# Altium integrated library Analog Devices Data Converters Digital-to-Analog Converters.IntLib: 2231 symbols (part 180 of 181)
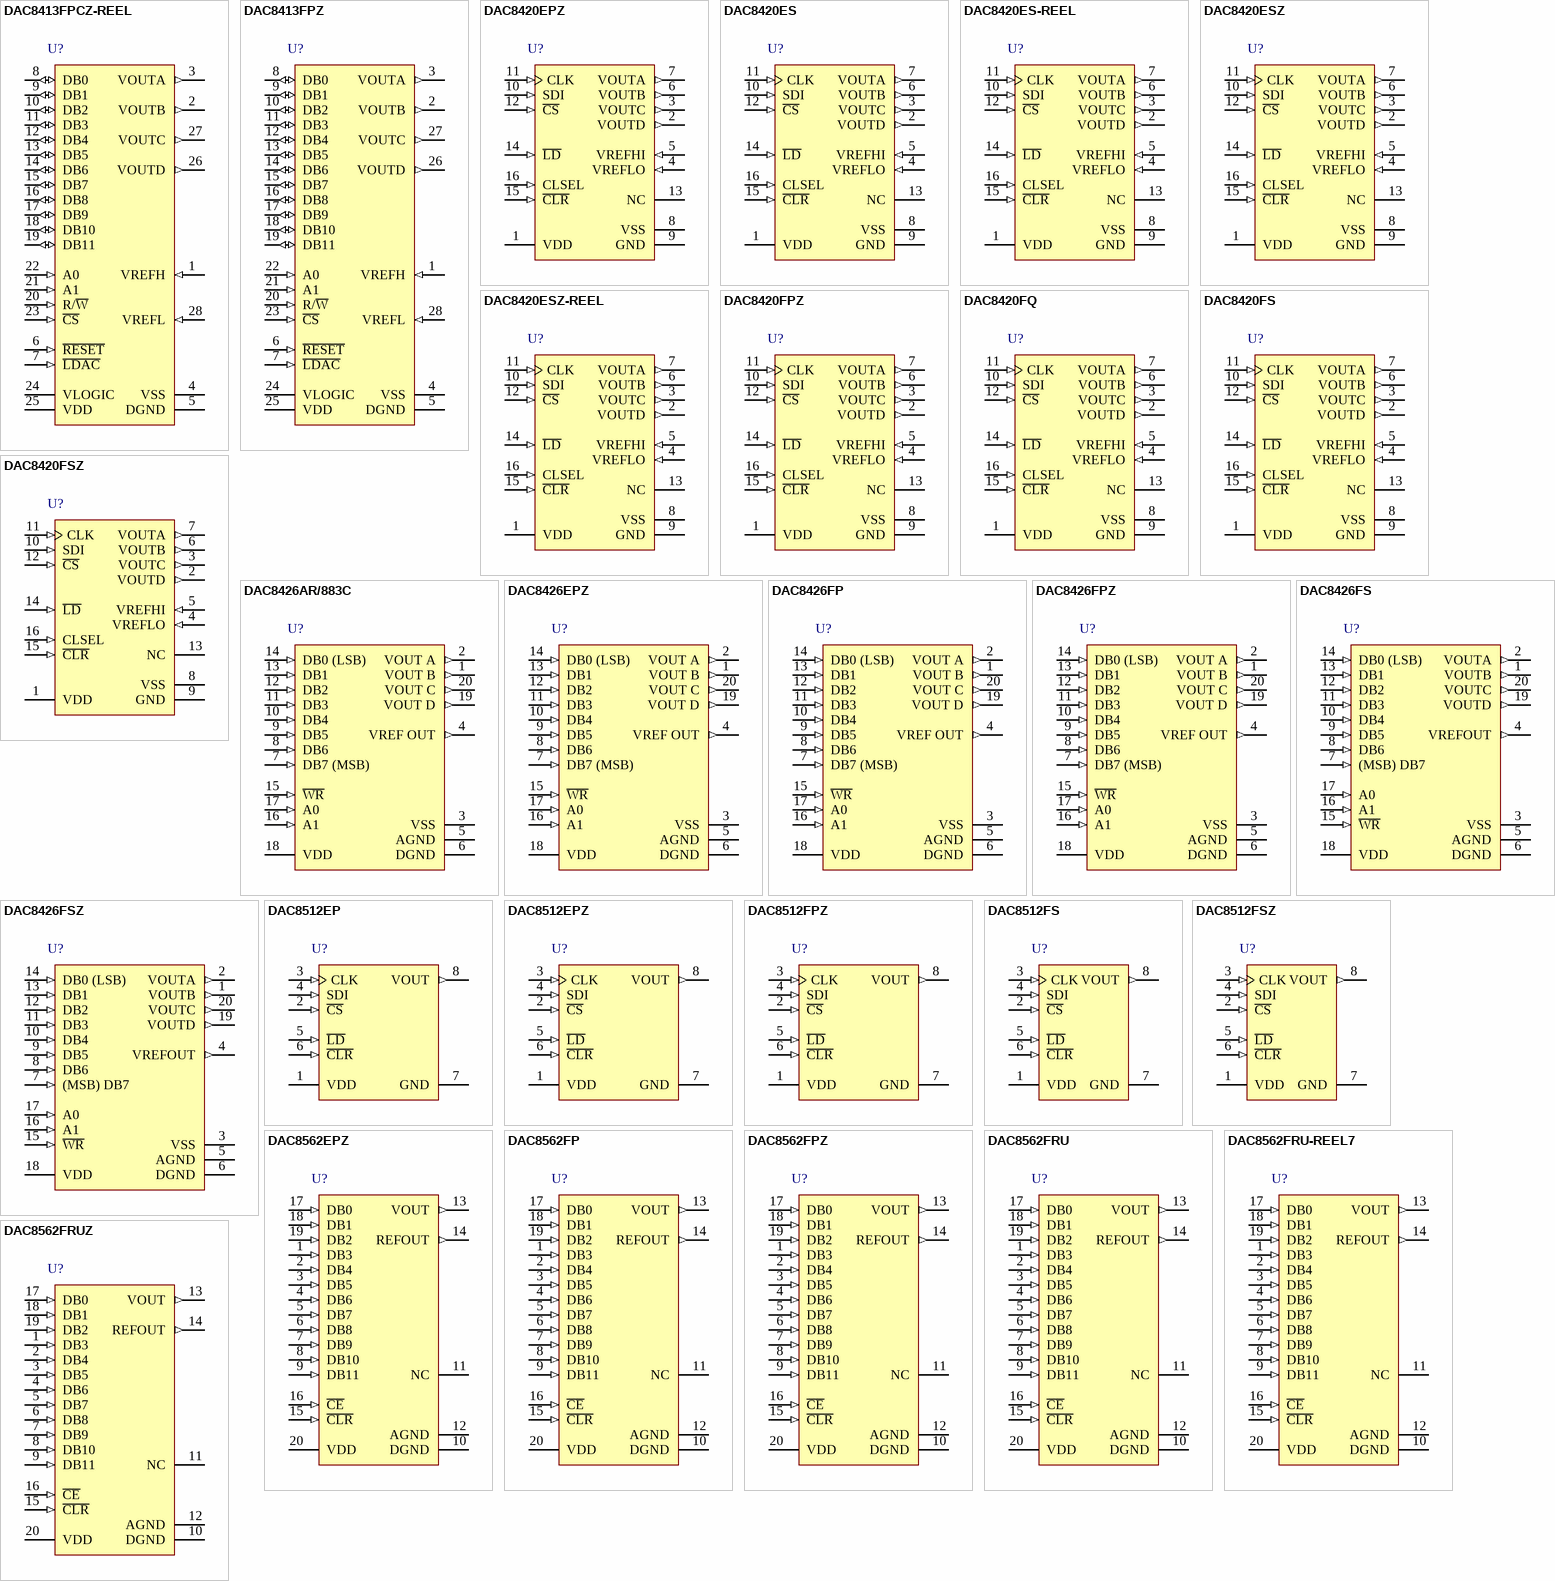
[diagram p293: symbols DAC8413FPCZ-REEL to DAC8562FRUZ]

## DAC8512FS
designator U?
Single 12-Bit Digital-to-Analog Converter with Serial Interface, -40 to +85 degC, R-8, Tube; Generic Part Number: DAC8512; Manufacturer: Analog Devices; PartNumber: DAC8512FS; # DAC Outputs: 1; Max V+: 5.25V; Op Pwr Diss: 2.5mW; Resolution (Bits): 12; Settling Time: 16µs; Single Supply: Yes; DatasheetVersion: Rev.A; PackageVersion: 060506-A; PackageReference: R-8; PackageDescription: 8-Lead Standard Small Outline Package [SOIC_N] Narrow Body; Supplier 1: Digi-Key; Supplier Part Number 1: DAC8512FS-ND; Supplier 2: Newark; Supplier Part Number 2: 19M8960; Supplier 3: Mouser; Supplier Part Number 3: 584-DAC8512FS; Packing: Tube; RoHS: N; Mounting Technology: Surface Mount; Code_JEDEC: MS-012-AA; Code_IPC: SOIC127P600-8; ComponentLink1Description: Manufacturer URL; ComponentLink1URL: http://www.analog.com/en/index.html; ComponentLink2Description: Datasheet; ComponentLink2URL: http://www.analog.com/static/imported-files/data_sheets/DAC8512.pdf; ComponentLink3Description: Package Specification; ComponentLink3URL: http://www.analog.com/static/imported-files/packages/PKG_PDF/SOIC_Narrow%20(R)/R_8.pdf; ComponentLink4Description: Product URL; ComponentLink4URL: http://www.analog.com/en/digital-to-analog-converters/da-converters/dac8512/products/product.html
footprint R-8_N (SOIC, 8-Leads, Body 4.9x3.9mm, Pitch 1.27mm, IPC Medium Density)
footprint R-8_L (SOIC, 8-Leads, Body 4.9x3.9mm, Pitch 1.27mm, IPC High Density)
footprint R-8_M (SOIC, 8-Leads, Body 4.9x3.9mm, Pitch 1.27mm, IPC Low Density)
pins: 1 VDD (power) "Positive Supply. Nominal value +5 V, +/- 5%.", 2 ~{CS} (in) "Chip Select. Active low input.", 3 CLK (in) "Clock input for the internal serial input shift register.", 4 SDI (in) "Serial Data Input. Data on this pin is clocked into the internal serial register on positive clock edges of the CLK pin. The Most Significant Bit (MSB) is loaded first.", 5 ~{LD} (in) "Active low input which writes the serial register data into the DAC register. Asynchronous input.", 6 ~{CLR} (in) "Active low digital input that clears the DAC register to zero, setting the DAC to minimum scale. Asynchronous input.", 7 GND (power) "Analog ground for the DAC. This also serves as the digital logic ground reference voltage.", 8 VOUT (out) "Voltage output from the DAC. Fixed output voltage range of 0 V to 4.095 V with 1 mV/LSB. An internal temperature stabilized reference maintains a fixed full-scale voltage independent of time, temperature and power supply (See Datasheet)"

## DAC8512FSZ
designator U?
Single 12-Bit Digital-to-Analog Converter with Serial Interface, -40 to +85 degC, R-8, Pb-Free, Tube; Generic Part Number: DAC8512; Manufacturer: Analog Devices; PartNumber: DAC8512FSZ; # DAC Outputs: 1; Max V+: 5.25V; Op Pwr Diss: 2.5mW; Resolution (Bits): 12; Settling Time: 16µs; Single Supply: Yes; DatasheetVersion: Rev.A; PackageVersion: 060506-A; PackageReference: R-8; PackageDescription: 8-Lead Standard Small Outline Package [SOIC_N] Narrow Body; Supplier 1: Digi-Key; Supplier Part Number 1: DAC8512FSZ-ND; Supplier 2: Farnell; Supplier Part Number 2: 1389174; Supplier 3: Newark; Supplier Part Number 3: 82H3242; Supplier 4: Mouser; Supplier Part Number 4: 584-DAC8512FSZ; Packing: Tube; RoHS: Y; Mounting Technology: Surface Mount; Code_JEDEC: MS-012-AA; Code_IPC: SOIC127P600-8; ComponentLink1Description: Manufacturer URL; ComponentLink1URL: http://www.analog.com/en/index.html; ComponentLink2Description: Datasheet; ComponentLink2URL: http://www.analog.com/static/imported-files/data_sheets/DAC8512.pdf; ComponentLink3Description: Package Specification; ComponentLink3URL: http://www.analog.com/static/imported-files/packages/PKG_PDF/SOIC_Narrow%20(R)/R_8.pdf; ComponentLink4Description: Product URL; ComponentLink4URL: http://www.analog.com/en/digital-to-analog-converters/da-converters/dac8512/products/product.html
footprint R-8_N (SOIC, 8-Leads, Body 4.9x3.9mm, Pitch 1.27mm, IPC Medium Density)
footprint R-8_L (SOIC, 8-Leads, Body 4.9x3.9mm, Pitch 1.27mm, IPC High Density)
footprint R-8_M (SOIC, 8-Leads, Body 4.9x3.9mm, Pitch 1.27mm, IPC Low Density)
pins: 1 VDD (power) "Positive Supply. Nominal value +5 V, +/- 5%.", 2 ~{CS} (in) "Chip Select. Active low input.", 3 CLK (in) "Clock input for the internal serial input shift register.", 4 SDI (in) "Serial Data Input. Data on this pin is clocked into the internal serial register on positive clock edges of the CLK pin. The Most Significant Bit (MSB) is loaded first.", 5 ~{LD} (in) "Active low input which writes the serial register data into the DAC register. Asynchronous input.", 6 ~{CLR} (in) "Active low digital input that clears the DAC register to zero, setting the DAC to minimum scale. Asynchronous input.", 7 GND (power) "Analog ground for the DAC. This also serves as the digital logic ground reference voltage.", 8 VOUT (out) "Voltage output from the DAC. Fixed output voltage range of 0 V to 4.095 V with 1 mV/LSB. An internal temperature stabilized reference maintains a fixed full-scale voltage independent of time, temperature and power supply (See Datasheet)"

## DAC8562EPZ
designator U?
Single 12-Bit Digital-to-Analog Converter with Parallel Interface, 5 V, -40 to +85 degC, N-20, Pb-Free, Tube; Generic Part Number: DAC8562; Manufacturer: Analog Devices; PartNumber: DAC8562EPZ; # DAC Outputs: 1; Max V+: 5.25V; Op Pwr Diss: 30mW; Resolution (Bits): 12; Settling Time: 16µs; Single Supply: Yes; DatasheetVersion: Rev.A; PackageVersion: 070706-A; PackageReference: N-20; PackageDescription: 20-Lead Plastic Dual In-Line Package [PDIP] Narrow Body; Supplier 1: Mouser; Supplier Part Number 1: N/A; Packing: Tube; RoHS: Y; Mounting Technology: Through Hole; Code_JEDEC: MS-001; ComponentLink1Description: Manufacturer URL; ComponentLink1URL: http://www.analog.com/en/index.html; ComponentLink2Description: Datasheet; ComponentLink2URL: http://www.analog.com/static/imported-files/data_sheets/DAC8562.pdf; ComponentLink3Description: Package Specification; ComponentLink3URL: http://www.analog.com/static/imported-files/packages/50601349676519N_20.pdf; ComponentLink4Description: Product URL; ComponentLink4URL: http://www.analog.com/en/digital-to-analog-converters/da-converters/dac8562/products/product.html
footprint N-20 (DIP, 20-Leads, Row Spacing 7.62mm, Pitch 2.54mm, Body 25.9x6.6mm)
pins: 1 DB3 (in) "Twelve Binary Data Bit inputs.", 2 DB4 (in) "Twelve Binary Data Bit inputs.", 3 DB5 (in) "Twelve Binary Data Bit inputs.", 4 DB6 (in) "Twelve Binary Data Bit inputs.", 5 DB7 (in) "Twelve Binary Data Bit inputs.", 6 DB8 (in) "Twelve Binary Data Bit inputs.", 7 DB9 (in) "Twelve Binary Data Bit inputs.", 8 DB10 (in) "Twelve Binary Data Bit inputs.", 9 DB11 (in) "Twelve Binary Data Bit inputs.DB11 is the MSB.", 10 DGND (power) "Digital ground for input logic.", 11 NC "No Connection. Leave pin floating.", 12 AGND (power) "Analog Ground. Ground reference for the internal bandgap reference voltage, the DAC, and the output buffer.", 13 VOUT (out) "Voltage output from the DAC. Fixed output voltage range of 0 V to 4.095 V with 1 mV/LSB. An internal temperature stabilized reference maintains a fixed full-scale voltage independent of time, temperature and power supply (See Datasheet)", 14 REFOUT (out) "Nominal 2.5 V reference output voltage. This node must be buffered if required to drive external loads.", 15 ~{CLR} (in) "Active low digital input that clears the DAC register to zero, setting the DAC to minimum scale.", 16 ~{CE} (in) "Chip Enable. Active low input.", 17 DB0 (in) "Twelve Binary Data Bit inputs.DB0 is the LSB.", 18 DB1 (in) "Twelve Binary Data Bit inputs.", 19 DB2 (in) "Twelve Binary Data Bit inputs.", 20 VDD (power) "Positive supply. Nominal value +5 volts, +/-5%."

## DAC8562FP
designator U?
Single 12-Bit Digital-to-Analog Converter with Parallel Interface, 5 V, -40 to +85 degC, N-20, Tube; Generic Part Number: DAC8562; Manufacturer: Analog Devices; PartNumber: DAC8562FP; # DAC Outputs: 1; Max V+: 5.25V; Op Pwr Diss: 30mW; Resolution (Bits): 12; Settling Time: 16µs; Single Supply: Yes; DatasheetVersion: Rev.A; PackageVersion: 070706-A; PackageReference: N-20; PackageDescription: 20-Lead Plastic Dual In-Line Package [PDIP] Narrow Body; Supplier 1: Digi-Key; Supplier Part Number 1: DAC8562FP-ND; Supplier 2: Newark; Supplier Part Number 2: 05F8047; Supplier 3: Mouser; Supplier Part Number 3: 584-DAC8562FP; Packing: Tube; RoHS: N; Mounting Technology: Through Hole; Code_JEDEC: MS-001; ComponentLink1Description: Manufacturer URL; ComponentLink1URL: http://www.analog.com/en/index.html; ComponentLink2Description: Datasheet; ComponentLink2URL: http://www.analog.com/static/imported-files/data_sheets/DAC8562.pdf; ComponentLink3Description: Package Specification; ComponentLink3URL: http://www.analog.com/static/imported-files/packages/50601349676519N_20.pdf; ComponentLink4Description: Product URL; ComponentLink4URL: http://www.analog.com/en/digital-to-analog-converters/da-converters/dac8562/products/product.html
footprint N-20 (DIP, 20-Leads, Row Spacing 7.62mm, Pitch 2.54mm, Body 25.9x6.6mm)
pins: 1 DB3 (in) "Twelve Binary Data Bit inputs.", 2 DB4 (in) "Twelve Binary Data Bit inputs.", 3 DB5 (in) "Twelve Binary Data Bit inputs.", 4 DB6 (in) "Twelve Binary Data Bit inputs.", 5 DB7 (in) "Twelve Binary Data Bit inputs.", 6 DB8 (in) "Twelve Binary Data Bit inputs.", 7 DB9 (in) "Twelve Binary Data Bit inputs.", 8 DB10 (in) "Twelve Binary Data Bit inputs.", 9 DB11 (in) "Twelve Binary Data Bit inputs.DB11 is the MSB.", 10 DGND (power) "Digital ground for input logic.", 11 NC "No Connection. Leave pin floating.", 12 AGND (power) "Analog Ground. Ground reference for the internal bandgap reference voltage, the DAC, and the output buffer.", 13 VOUT (out) "Voltage output from the DAC. Fixed output voltage range of 0 V to 4.095 V with 1 mV/LSB. An internal temperature stabilized reference maintains a fixed full-scale voltage independent of time, temperature and power supply (See Datasheet)", 14 REFOUT (out) "Nominal 2.5 V reference output voltage. This node must be buffered if required to drive external loads.", 15 ~{CLR} (in) "Active low digital input that clears the DAC register to zero, setting the DAC to minimum scale.", 16 ~{CE} (in) "Chip Enable. Active low input.", 17 DB0 (in) "Twelve Binary Data Bit inputs.DB0 is the LSB.", 18 DB1 (in) "Twelve Binary Data Bit inputs.", 19 DB2 (in) "Twelve Binary Data Bit inputs.", 20 VDD (power) "Positive supply. Nominal value +5 volts, +/-5%."

## DAC8562FPZ
designator U?
Single 12-Bit Digital-to-Analog Converter with Parallel Interface, 5 V, -40 to +85 degC, N-20, Pb-Free, Tube; Generic Part Number: DAC8562; Manufacturer: Analog Devices; PartNumber: DAC8562FPZ; # DAC Outputs: 1; Max V+: 5.25V; Op Pwr Diss: 30mW; Resolution (Bits): 12; Settling Time: 16µs; Single Supply: Yes; DatasheetVersion: Rev.A; PackageVersion: 070706-A; PackageReference: N-20; PackageDescription: 20-Lead Plastic Dual In-Line Package [PDIP] Narrow Body; Supplier 1: Digi-Key; Supplier Part Number 1: DAC8562FPZ-ND; Supplier 2: Mouser; Supplier Part Number 2: 584-DAC8562FPZ; Packing: Tube; RoHS: Y; Mounting Technology: Through Hole; Code_JEDEC: MS-001; ComponentLink1Description: Manufacturer URL; ComponentLink1URL: http://www.analog.com/en/index.html; ComponentLink2Description: Datasheet; ComponentLink2URL: http://www.analog.com/static/imported-files/data_sheets/DAC8562.pdf; ComponentLink3Description: Package Specification; ComponentLink3URL: http://www.analog.com/static/imported-files/packages/50601349676519N_20.pdf; ComponentLink4Description: Product URL; ComponentLink4URL: http://www.analog.com/en/digital-to-analog-converters/da-converters/dac8562/products/product.html
footprint N-20 (DIP, 20-Leads, Row Spacing 7.62mm, Pitch 2.54mm, Body 25.9x6.6mm)
pins: 1 DB3 (in) "Twelve Binary Data Bit inputs.", 2 DB4 (in) "Twelve Binary Data Bit inputs.", 3 DB5 (in) "Twelve Binary Data Bit inputs.", 4 DB6 (in) "Twelve Binary Data Bit inputs.", 5 DB7 (in) "Twelve Binary Data Bit inputs.", 6 DB8 (in) "Twelve Binary Data Bit inputs.", 7 DB9 (in) "Twelve Binary Data Bit inputs.", 8 DB10 (in) "Twelve Binary Data Bit inputs.", 9 DB11 (in) "Twelve Binary Data Bit inputs.DB11 is the MSB.", 10 DGND (power) "Digital ground for input logic.", 11 NC "No Connection. Leave pin floating.", 12 AGND (power) "Analog Ground. Ground reference for the internal bandgap reference voltage, the DAC, and the output buffer.", 13 VOUT (out) "Voltage output from the DAC. Fixed output voltage range of 0 V to 4.095 V with 1 mV/LSB. An internal temperature stabilized reference maintains a fixed full-scale voltage independent of time, temperature and power supply (See Datasheet)", 14 REFOUT (out) "Nominal 2.5 V reference output voltage. This node must be buffered if required to drive external loads.", 15 ~{CLR} (in) "Active low digital input that clears the DAC register to zero, setting the DAC to minimum scale.", 16 ~{CE} (in) "Chip Enable. Active low input.", 17 DB0 (in) "Twelve Binary Data Bit inputs.DB0 is the LSB.", 18 DB1 (in) "Twelve Binary Data Bit inputs.", 19 DB2 (in) "Twelve Binary Data Bit inputs.", 20 VDD (power) "Positive supply. Nominal value +5 volts, +/-5%."

## DAC8562FRU
designator U?
Single 12-Bit Digital-to-Analog Converter with Parallel Interface, 5 V, -40 to +85 degC, RU-20, Tube; Generic Part Number: DAC8562; Manufacturer: Analog Devices; PartNumber: DAC8562FRU; # DAC Outputs: 1; Max V+: 5.25V; Op Pwr Diss: 30mW; Resolution (Bits): 12; Settling Time: 16µs; Single Supply: Yes; DatasheetVersion: Rev.A; PackageVersion: 2000; PackageReference: RU-20; PackageDescription: 20-Lead Thin Shrink Small Outline Package [TSSOP]; Supplier 1: Digi-Key; Supplier Part Number 1: DAC8562FRU-ND; Supplier 2: Mouser; Supplier Part Number 2: 584-DAC8562FRU; Packing: Tube; RoHS: N; Mounting Technology: Surface Mount; Code_JEDEC: MO-153AC; ComponentLink1Description: Manufacturer URL; ComponentLink1URL: http://www.analog.com/en/index.html; ComponentLink2Description: Datasheet; ComponentLink2URL: http://www.analog.com/static/imported-files/data_sheets/DAC8562.pdf; ComponentLink3Description: Package Specification; ComponentLink3URL: http://www.analog.com/static/imported-files/packages/364515793657813558433715854054607941441RU20.pdf; ComponentLink4Description: Product URL; ComponentLink4URL: http://www.analog.com/en/digital-to-analog-converters/da-converters/dac8562/products/product.html
footprint RU-20_N (TSOP, 20-Leads, Body 6.5x4.4mm, Pitch 0.65mm, IPC Medium Density)
footprint RU-20_L (TSOP, 20-Leads, Body 6.5x4.4mm, Pitch 0.65mm, IPC High Density)
footprint RU-20_M (TSOP, 20-Leads, Body 6.5x4.4mm, Pitch 0.65mm, IPC Low Density)
pins: 1 DB3 (in) "Twelve Binary Data Bit inputs.", 2 DB4 (in) "Twelve Binary Data Bit inputs.", 3 DB5 (in) "Twelve Binary Data Bit inputs.", 4 DB6 (in) "Twelve Binary Data Bit inputs.", 5 DB7 (in) "Twelve Binary Data Bit inputs.", 6 DB8 (in) "Twelve Binary Data Bit inputs.", 7 DB9 (in) "Twelve Binary Data Bit inputs.", 8 DB10 (in) "Twelve Binary Data Bit inputs.", 9 DB11 (in) "Twelve Binary Data Bit inputs.DB11 is the MSB.", 10 DGND (power) "Digital ground for input logic.", 11 NC "No Connection. Leave pin floating.", 12 AGND (power) "Analog Ground. Ground reference for the internal bandgap reference voltage, the DAC, and the output buffer.", 13 VOUT (out) "Voltage output from the DAC. Fixed output voltage range of 0 V to 4.095 V with 1 mV/LSB. An internal temperature stabilized reference maintains a fixed full-scale voltage independent of time, temperature and power supply (See Datasheet)", 14 REFOUT (out) "Nominal 2.5 V reference output voltage. This node must be buffered if required to drive external loads.", 15 ~{CLR} (in) "Active low digital input that clears the DAC register to zero, setting the DAC to minimum scale.", 16 ~{CE} (in) "Chip Enable. Active low input.", 17 DB0 (in) "Twelve Binary Data Bit inputs.DB0 is the LSB.", 18 DB1 (in) "Twelve Binary Data Bit inputs.", 19 DB2 (in) "Twelve Binary Data Bit inputs.", 20 VDD (power) "Positive supply. Nominal value +5 volts, +/-5%."

## DAC8562FRU-REEL7
designator U?
Single 12-Bit Digital-to-Analog Converter with Parallel Interface, 5 V, -40 to +85 degC, RU-20, Reel; Generic Part Number: DAC8562; Manufacturer: Analog Devices; PartNumber: DAC8562FRU-REEL7; # DAC Outputs: 1; Max V+: 5.25V; Op Pwr Diss: 30mW; Resolution (Bits): 12; Settling Time: 16µs; Single Supply: Yes; DatasheetVersion: Rev.A; PackageVersion: 2000; PackageReference: RU-20; PackageDescription: 20-Lead Thin Shrink Small Outline Package [TSSOP]; Supplier 1: Digi-Key; Supplier Part Number 1: DAC8562FRU-REEL7-ND; Supplier 2: Mouser; Supplier Part Number 2: 584-DAC8562FRU-R7; Packing: Reel; RoHS: N; Mounting Technology: Surface Mount; Code_JEDEC: MO-153AC; ComponentLink1Description: Manufacturer URL; ComponentLink1URL: http://www.analog.com/en/index.html; ComponentLink2Description: Datasheet; ComponentLink2URL: http://www.analog.com/static/imported-files/data_sheets/DAC8562.pdf; ComponentLink3Description: Package Specification; ComponentLink3URL: http://www.analog.com/static/imported-files/packages/364515793657813558433715854054607941441RU20.pdf; ComponentLink4Description: Product URL; ComponentLink4URL: http://www.analog.com/en/digital-to-analog-converters/da-converters/dac8562/products/product.html
footprint RU-20_N (TSOP, 20-Leads, Body 6.5x4.4mm, Pitch 0.65mm, IPC Medium Density)
footprint RU-20_L (TSOP, 20-Leads, Body 6.5x4.4mm, Pitch 0.65mm, IPC High Density)
footprint RU-20_M (TSOP, 20-Leads, Body 6.5x4.4mm, Pitch 0.65mm, IPC Low Density)
pins: 1 DB3 (in) "Twelve Binary Data Bit inputs.", 2 DB4 (in) "Twelve Binary Data Bit inputs.", 3 DB5 (in) "Twelve Binary Data Bit inputs.", 4 DB6 (in) "Twelve Binary Data Bit inputs.", 5 DB7 (in) "Twelve Binary Data Bit inputs.", 6 DB8 (in) "Twelve Binary Data Bit inputs.", 7 DB9 (in) "Twelve Binary Data Bit inputs.", 8 DB10 (in) "Twelve Binary Data Bit inputs.", 9 DB11 (in) "Twelve Binary Data Bit inputs.DB11 is the MSB.", 10 DGND (power) "Digital ground for input logic.", 11 NC "No Connection. Leave pin floating.", 12 AGND (power) "Analog Ground. Ground reference for the internal bandgap reference voltage, the DAC, and the output buffer.", 13 VOUT (out) "Voltage output from the DAC. Fixed output voltage range of 0 V to 4.095 V with 1 mV/LSB. An internal temperature stabilized reference maintains a fixed full-scale voltage independent of time, temperature and power supply (See Datasheet)", 14 REFOUT (out) "Nominal 2.5 V reference output voltage. This node must be buffered if required to drive external loads.", 15 ~{CLR} (in) "Active low digital input that clears the DAC register to zero, setting the DAC to minimum scale.", 16 ~{CE} (in) "Chip Enable. Active low input.", 17 DB0 (in) "Twelve Binary Data Bit inputs.DB0 is the LSB.", 18 DB1 (in) "Twelve Binary Data Bit inputs.", 19 DB2 (in) "Twelve Binary Data Bit inputs.", 20 VDD (power) "Positive supply. Nominal value +5 volts, +/-5%."

## DAC8562FRUZ
designator U?
Single 12-Bit Digital-to-Analog Converter with Parallel Interface, 5 V, -40 to +85 degC, RU-20, Pb-Free, Tube; Generic Part Number: DAC8562; Manufacturer: Analog Devices; PartNumber: DAC8562FRUZ; # DAC Outputs: 1; Max V+: 5.25V; Op Pwr Diss: 30mW; Resolution (Bits): 12; Settling Time: 16µs; Single Supply: Yes; DatasheetVersion: Rev.A; PackageVersion: 2000; PackageReference: RU-20; PackageDescription: 20-Lead Thin Shrink Small Outline Package [TSSOP]; Supplier 1: Digi-Key; Supplier Part Number 1: DAC8562FRUZ-ND; Supplier 2: Mouser; Supplier Part Number 2: 584-DAC8562FRUZ; Packing: Tube; RoHS: Y; Mounting Technology: Surface Mount; Code_JEDEC: MO-153AC; ComponentLink1Description: Manufacturer URL; ComponentLink1URL: http://www.analog.com/en/index.html; ComponentLink2Description: Datasheet; ComponentLink2URL: http://www.analog.com/static/imported-files/data_sheets/DAC8562.pdf; ComponentLink3Description: Package Specification; ComponentLink3URL: http://www.analog.com/static/imported-files/packages/364515793657813558433715854054607941441RU20.pdf; ComponentLink4Description: Product URL; ComponentLink4URL: http://www.analog.com/en/digital-to-analog-converters/da-converters/dac8562/products/product.html
footprint RU-20_N (TSOP, 20-Leads, Body 6.5x4.4mm, Pitch 0.65mm, IPC Medium Density)
footprint RU-20_L (TSOP, 20-Leads, Body 6.5x4.4mm, Pitch 0.65mm, IPC High Density)
footprint RU-20_M (TSOP, 20-Leads, Body 6.5x4.4mm, Pitch 0.65mm, IPC Low Density)
pins: 1 DB3 (in) "Twelve Binary Data Bit inputs.", 2 DB4 (in) "Twelve Binary Data Bit inputs.", 3 DB5 (in) "Twelve Binary Data Bit inputs.", 4 DB6 (in) "Twelve Binary Data Bit inputs.", 5 DB7 (in) "Twelve Binary Data Bit inputs.", 6 DB8 (in) "Twelve Binary Data Bit inputs.", 7 DB9 (in) "Twelve Binary Data Bit inputs.", 8 DB10 (in) "Twelve Binary Data Bit inputs.", 9 DB11 (in) "Twelve Binary Data Bit inputs.DB11 is the MSB.", 10 DGND (power) "Digital ground for input logic.", 11 NC "No Connection. Leave pin floating.", 12 AGND (power) "Analog Ground. Ground reference for the internal bandgap reference voltage, the DAC, and the output buffer.", 13 VOUT (out) "Voltage output from the DAC. Fixed output voltage range of 0 V to 4.095 V with 1 mV/LSB. An internal temperature stabilized reference maintains a fixed full-scale voltage independent of time, temperature and power supply (See Datasheet)", 14 REFOUT (out) "Nominal 2.5 V reference output voltage. This node must be buffered if required to drive external loads.", 15 ~{CLR} (in) "Active low digital input that clears the DAC register to zero, setting the DAC to minimum scale.", 16 ~{CE} (in) "Chip Enable. Active low input.", 17 DB0 (in) "Twelve Binary Data Bit inputs.DB0 is the LSB.", 18 DB1 (in) "Twelve Binary Data Bit inputs.", 19 DB2 (in) "Twelve Binary Data Bit inputs.", 20 VDD (power) "Positive supply. Nominal value +5 volts, +/-5%."

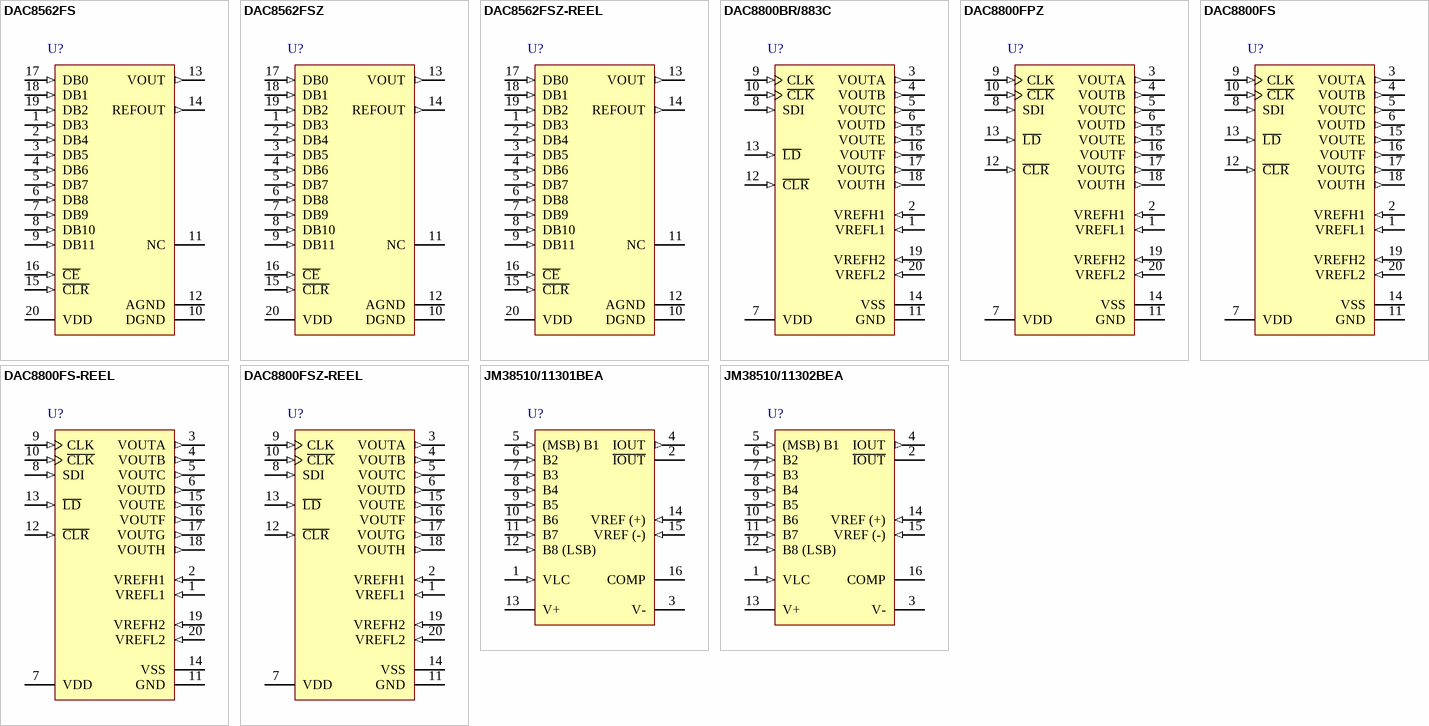
[diagram p114: symbols DAC8562FS to JM38510/11302BEA]

## DAC8562FS
designator U?
Single 12-Bit Digital-to-Analog Converter with Parallel Interface, 5 V, -40 to +85 degC, RW-20, Tube; Generic Part Number: DAC8562; Manufacturer: Analog Devices; PartNumber: DAC8562FS; # DAC Outputs: 1; Max V+: 5.25V; Op Pwr Diss: 30mW; Resolution (Bits): 12; Settling Time: 16µs; Single Supply: Yes; DatasheetVersion: Rev.A; PackageVersion: 060706-A; PackageReference: RW-20; PackageDescription: 20-Lead Standard Small Outline Package [SOIC_W] Wide Body; Supplier 1: Digi-Key; Supplier Part Number 1: DAC8562FS-ND; Supplier 2: Mouser; Supplier Part Number 2: 584-DAC8562FS; Packing: Tube; RoHS: N; Mounting Technology: Surface Mount; Code_JEDEC: MS-013-AC; ComponentLink1Description: Manufacturer URL; ComponentLink1URL: http://www.analog.com/en/index.html; ComponentLink2Description: Datasheet; ComponentLink2URL: http://www.analog.com/static/imported-files/data_sheets/DAC8562.pdf; ComponentLink3Description: Package Specification; ComponentLink3URL: http://www.analog.com/static/imported-files/packages/233848RW_20.pdf; ComponentLink4Description: Product URL; ComponentLink4URL: http://www.analog.com/en/digital-to-analog-converters/da-converters/dac8562/products/product.html
footprint RW-20_N (SOIC, 20-Leads, Body 12.8x7.5mm, Pitch 1.27mm, IPC Medium Density)
footprint RW-20_L (SOIC, 20-Leads, Body 12.8x7.5mm, Pitch 1.27mm, IPC High Density)
footprint RW-20_M (SOIC, 20-Leads, Body 12.8x7.5mm, Pitch 1.27mm, IPC Low Density)
pins: 1 DB3 (in) "Twelve Binary Data Bit inputs.", 2 DB4 (in) "Twelve Binary Data Bit inputs.", 3 DB5 (in) "Twelve Binary Data Bit inputs.", 4 DB6 (in) "Twelve Binary Data Bit inputs.", 5 DB7 (in) "Twelve Binary Data Bit inputs.", 6 DB8 (in) "Twelve Binary Data Bit inputs.", 7 DB9 (in) "Twelve Binary Data Bit inputs.", 8 DB10 (in) "Twelve Binary Data Bit inputs.", 9 DB11 (in) "Twelve Binary Data Bit inputs.DB11 is the MSB.", 10 DGND (power) "Digital ground for input logic.", 11 NC "No Connection. Leave pin floating.", 12 AGND (power) "Analog Ground. Ground reference for the internal bandgap reference voltage, the DAC, and the output buffer.", 13 VOUT (out) "Voltage output from the DAC. Fixed output voltage range of 0 V to 4.095 V with 1 mV/LSB. An internal temperature stabilized reference maintains a fixed full-scale voltage independent of time, temperature and power supply (See Datasheet)", 14 REFOUT (out) "Nominal 2.5 V reference output voltage. This node must be buffered if required to drive external loads.", 15 ~{CLR} (in) "Active low digital input that clears the DAC register to zero, setting the DAC to minimum scale.", 16 ~{CE} (in) "Chip Enable. Active low input.", 17 DB0 (in) "Twelve Binary Data Bit inputs.DB0 is the LSB.", 18 DB1 (in) "Twelve Binary Data Bit inputs.", 19 DB2 (in) "Twelve Binary Data Bit inputs.", 20 VDD (power) "Positive supply. Nominal value +5 volts, +/-5%."

## DAC8562FSZ
designator U?
Single 12-Bit Digital-to-Analog Converter with Parallel Interface, 5 V, -40 to +85 degC, RW-20, Pb-Free, Tube; Generic Part Number: DAC8562; Manufacturer: Analog Devices; PartNumber: DAC8562FSZ; # DAC Outputs: 1; Max V+: 5.25V; Op Pwr Diss: 30mW; Resolution (Bits): 12; Settling Time: 16µs; Single Supply: Yes; DatasheetVersion: Rev.A; PackageVersion: 060706-A; PackageReference: RW-20; PackageDescription: 20-Lead Standard Small Outline Package [SOIC_W] Wide Body; Supplier 1: Digi-Key; Supplier Part Number 1: DAC8562FSZ-ND; Supplier 2: Mouser; Supplier Part Number 2: 584-DAC8562FSZ; Packing: Tube; RoHS: Y; Mounting Technology: Surface Mount; Code_JEDEC: MS-013-AC; ComponentLink1Description: Manufacturer URL; ComponentLink1URL: http://www.analog.com/en/index.html; ComponentLink2Description: Datasheet; ComponentLink2URL: http://www.analog.com/static/imported-files/data_sheets/DAC8562.pdf; ComponentLink3Description: Package Specification; ComponentLink3URL: http://www.analog.com/static/imported-files/packages/233848RW_20.pdf; ComponentLink4Description: Product URL; ComponentLink4URL: http://www.analog.com/en/digital-to-analog-converters/da-converters/dac8562/products/product.html
footprint RW-20_N (SOIC, 20-Leads, Body 12.8x7.5mm, Pitch 1.27mm, IPC Medium Density)
footprint RW-20_L (SOIC, 20-Leads, Body 12.8x7.5mm, Pitch 1.27mm, IPC High Density)
footprint RW-20_M (SOIC, 20-Leads, Body 12.8x7.5mm, Pitch 1.27mm, IPC Low Density)
pins: 1 DB3 (in) "Twelve Binary Data Bit inputs.", 2 DB4 (in) "Twelve Binary Data Bit inputs.", 3 DB5 (in) "Twelve Binary Data Bit inputs.", 4 DB6 (in) "Twelve Binary Data Bit inputs.", 5 DB7 (in) "Twelve Binary Data Bit inputs.", 6 DB8 (in) "Twelve Binary Data Bit inputs.", 7 DB9 (in) "Twelve Binary Data Bit inputs.", 8 DB10 (in) "Twelve Binary Data Bit inputs.", 9 DB11 (in) "Twelve Binary Data Bit inputs.DB11 is the MSB.", 10 DGND (power) "Digital ground for input logic.", 11 NC "No Connection. Leave pin floating.", 12 AGND (power) "Analog Ground. Ground reference for the internal bandgap reference voltage, the DAC, and the output buffer.", 13 VOUT (out) "Voltage output from the DAC. Fixed output voltage range of 0 V to 4.095 V with 1 mV/LSB. An internal temperature stabilized reference maintains a fixed full-scale voltage independent of time, temperature and power supply (See Datasheet)", 14 REFOUT (out) "Nominal 2.5 V reference output voltage. This node must be buffered if required to drive external loads.", 15 ~{CLR} (in) "Active low digital input that clears the DAC register to zero, setting the DAC to minimum scale.", 16 ~{CE} (in) "Chip Enable. Active low input.", 17 DB0 (in) "Twelve Binary Data Bit inputs.DB0 is the LSB.", 18 DB1 (in) "Twelve Binary Data Bit inputs.", 19 DB2 (in) "Twelve Binary Data Bit inputs.", 20 VDD (power) "Positive supply. Nominal value +5 volts, +/-5%."

## DAC8562FSZ-REEL
designator U?
Single 12-Bit Digital-to-Analog Converter with Parallel Interface, 5 V, -40 to +85 degC, RW-20, Pb-Free, Reel; Generic Part Number: DAC8562; Manufacturer: Analog Devices; PartNumber: DAC8562FSZ-REEL; # DAC Outputs: 1; Max V+: 5.25V; Op Pwr Diss: 30mW; Resolution (Bits): 12; Settling Time: 16µs; Single Supply: Yes; DatasheetVersion: Rev.A; PackageVersion: 060706-A; PackageReference: RW-20; PackageDescription: 20-Lead Standard Small Outline Package [SOIC_W] Wide Body; Supplier 1: Digi-Key; Supplier Part Number 1: DAC8562FSZ-REEL-ND; Supplier 2: Mouser; Supplier Part Number 2: 584-DAC8562FSZ-R; Packing: Reel; RoHS: Y; Mounting Technology: Surface Mount; Code_JEDEC: MS-013-AC; ComponentLink1Description: Manufacturer URL; ComponentLink1URL: http://www.analog.com/en/index.html; ComponentLink2Description: Datasheet; ComponentLink2URL: http://www.analog.com/static/imported-files/data_sheets/DAC8562.pdf; ComponentLink3Description: Package Specification; ComponentLink3URL: http://www.analog.com/static/imported-files/packages/233848RW_20.pdf; ComponentLink4Description: Product URL; ComponentLink4URL: http://www.analog.com/en/digital-to-analog-converters/da-converters/dac8562/products/product.html
footprint RW-20_N (SOIC, 20-Leads, Body 12.8x7.5mm, Pitch 1.27mm, IPC Medium Density)
footprint RW-20_L (SOIC, 20-Leads, Body 12.8x7.5mm, Pitch 1.27mm, IPC High Density)
footprint RW-20_M (SOIC, 20-Leads, Body 12.8x7.5mm, Pitch 1.27mm, IPC Low Density)
pins: 1 DB3 (in) "Twelve Binary Data Bit inputs.", 2 DB4 (in) "Twelve Binary Data Bit inputs.", 3 DB5 (in) "Twelve Binary Data Bit inputs.", 4 DB6 (in) "Twelve Binary Data Bit inputs.", 5 DB7 (in) "Twelve Binary Data Bit inputs.", 6 DB8 (in) "Twelve Binary Data Bit inputs.", 7 DB9 (in) "Twelve Binary Data Bit inputs.", 8 DB10 (in) "Twelve Binary Data Bit inputs.", 9 DB11 (in) "Twelve Binary Data Bit inputs.DB11 is the MSB.", 10 DGND (power) "Digital ground for input logic.", 11 NC "No Connection. Leave pin floating.", 12 AGND (power) "Analog Ground. Ground reference for the internal bandgap reference voltage, the DAC, and the output buffer.", 13 VOUT (out) "Voltage output from the DAC. Fixed output voltage range of 0 V to 4.095 V with 1 mV/LSB. An internal temperature stabilized reference maintains a fixed full-scale voltage independent of time, temperature and power supply (See Datasheet)", 14 REFOUT (out) "Nominal 2.5 V reference output voltage. This node must be buffered if required to drive external loads.", 15 ~{CLR} (in) "Active low digital input that clears the DAC register to zero, setting the DAC to minimum scale.", 16 ~{CE} (in) "Chip Enable. Active low input.", 17 DB0 (in) "Twelve Binary Data Bit inputs.DB0 is the LSB.", 18 DB1 (in) "Twelve Binary Data Bit inputs.", 19 DB2 (in) "Twelve Binary Data Bit inputs.", 20 VDD (power) "Positive supply. Nominal value +5 volts, +/-5%."

## DAC8800BR/883C
designator U?
Octal 8-Bit CMOS Digital-to-Analog Converter, -55 to +125 degC, Q-20, Tube; Generic Part Number: DAC8800; Manufacturer: Analog Devices; PartNumber: DAC8800BR/883C; # DAC Outputs: 8; Max V+: 18V; Op Pwr Diss: 12mW; Settling Time: 800ns; Single Supply: Yes; DatasheetVersion: Rev.A; PackageVersion: Dec-2004; PackageReference: Q-20; PackageDescription: 20-Lead Ceramic Dual In-Line Package [CERDIP]; Supplier 1: Mouser; Supplier Part Number 1: 584-DAC8800BR883C; Packing: Tube; Resolution (Bits): 8; RoHS: N; Mounting Technology: Through Hole; ComponentLink1Description: Manufacturer URL; ComponentLink1URL: http://www.analog.com/en/index.html; ComponentLink2Description: Datasheet; ComponentLink2URL: http://www.analog.com/static/imported-files/data_sheets/DAC8800.pdf; ComponentLink3Description: Package Specification; ComponentLink3URL: http://www.analog.com/static/imported-files/packages/50516416473314Q_20.pdf; ComponentLink4Description: Product URL; ComponentLink4URL: http://www.analog.com/en/digital-to-analog-converters/da-converters/dac8800/products/product.html
footprint Q-20 (DIP, 20-Leads, Row Spacing 7.62mm, Pitch 2.54mm, Body 25.9x6.7mm)
pins: 1 VREFL1 (in) "External DAC voltage reference input shared by DAC A,B,C,D.VREFL1 determines the lowest negative DAC output voltage.VREFL1 must be equal to or more postive than VSS.", 2 VREFH1 (in) "External DAC voltage reference input shared by DAC A,B,C,D.VREFH1 determines the lowest negative DAC output voltage.", 3 VOUTA (out) "DAC A Output,output voltage determined by external VREFH1 and VREFL1.", 4 VOUTB (out) "DAC B Output,output voltage determined by external VREFH1 and VREFL1.", 5 VOUTC (out) "DAC C Output,output voltage determined by external VREFH1 and VREFL1.", 6 VOUTD (out) "DAC D Output,output voltage determined by external VREFH1 and VREFL1.", 7 VDD (power) "Positive supply,allowable input voltage range +4.5v to +16v.", 8 SDI (in) "Serial Data input", 9 CLK (in) "Serial Clock input,positive edge triggered", 10 ~{CLK} (in) "Clock Enable or Serial Clock input,negative edge triggered", 11 GND (power) "Ground", 12 ~{CLR} (in) "Clear input (Active Low),Asynchronous TTL compatible input that resets all DAC registers to zero code", 13 ~{LD} (in) "Load DAC register strobe,TTL compatible input that transfers data bits from serial input register into the decoded DAC register.", 14 VSS (power) "Negative Supply,allowable input voltage range 0v to -12v.", 15 VOUTE (out) "DAC E Output,output voltage determined by external VREFH2 and VREFL2.", 16 VOUTF (out) "DAC F Output,output voltage determined by external VREFH2 and VREFL2.", 17 VOUTG (out) "DAC G Output,output voltage determined by external VREFH2 and VREFL2.", 18 VOUTH (out) "DAC H Output,output voltage determined by external VREFH2 and VREFL2.", 19 VREFH2 (in) "External DAC voltage reference input shared by DAC E,F,G,H.VREFH2 determines the lowest negative DAC output voltage.", 20 VREFL2 (in) "External DAC voltage reference input shared by DAC E,F,G,H.VREFL2 determines the lowest negative DAC output voltage.VREFL2 must be equal to or more postive than VSS."

## DAC8800FPZ
designator U?
Octal 8-Bit CMOS Digital-to-Analog Converter, -40 to +85 degC, N-20, Pb-Free, Tube; Generic Part Number: DAC8800; Manufacturer: Analog Devices; PartNumber: DAC8800FPZ; # DAC Outputs: 8; Max V+: 18V; Op Pwr Diss: 12mW; Settling Time: 800ns; Single Supply: Yes; DatasheetVersion: Rev.A; PackageVersion: 070706-A; PackageReference: N-20; PackageDescription: 20-Lead Plastic Dual In-Line Package [PDIP] Narrow Body; Supplier 1: Digi-Key; Supplier Part Number 1: DAC8800FPZ-ND; Supplier 2: Farnell; Supplier Part Number 2: 1438740; Supplier 3: Newark; Supplier Part Number 3: 59K7956; Supplier 4: Mouser; Supplier Part Number 4: 584-DAC8800FPZ; Packing: Tube; Resolution (Bits): 8; RoHS: Y; Mounting Technology: Through Hole; Code_JEDEC: MS-001; ComponentLink1Description: Manufacturer URL; ComponentLink1URL: http://www.analog.com/en/index.html; ComponentLink2Description: Datasheet; ComponentLink2URL: http://www.analog.com/static/imported-files/data_sheets/DAC8800.pdf; ComponentLink3Description: Package Specification; ComponentLink3URL: http://www.analog.com/static/imported-files/packages/50601349676519N_20.pdf; ComponentLink4Description: Product URL; ComponentLink4URL: http://www.analog.com/en/digital-to-analog-converters/da-converters/dac8800/products/product.html
footprint N-20 (DIP, 20-Leads, Row Spacing 7.62mm, Pitch 2.54mm, Body 25.9x6.6mm)
pins: 1 VREFL1 (in) "External DAC voltage reference input shared by DAC A,B,C,D.VREFL1 determines the lowest negative DAC output voltage.VREFL1 must be equal to or more postive than VSS.", 2 VREFH1 (in) "External DAC voltage reference input shared by DAC A,B,C,D.VREFH1 determines the highest positive DAC output voltage.", 3 VOUTA (out) "DAC A Output,output voltage determined by external VREFH1 and VREFL1.", 4 VOUTB (out) "DAC B Output,output voltage determined by external VREFH1 and VREFL1.", 5 VOUTC (out) "DAC C Output,output voltage determined by external VREFH1 and VREFL1.", 6 VOUTD (out) "DAC D Output,output voltage determined by external VREFH1 and VREFL1.", 7 VDD (power) "Positive supply,allowable input voltage range +4.5v to +16v.", 8 SDI (in) "Serial Data input.", 9 CLK (in) "Serial clock input,postive edge triggered", 10 ~{CLK} (in) "Clock Enable or Serial Clock input,negative edge triggered", 11 GND (power) "Ground", 12 ~{CLR} (in) "Clear input (Active Low),Asynchronous TTL compatilble input that resets all DAC registers to zero code.", 13 ~{LD} (in) "Load DAC Register Strobe,TTL compatible input that transfers data bits from serial input register into the decoded DAC register.", 14 VSS (power) "Negative Supply,allowable input voltage range 0v to -12v.", 15 VOUTE (out) "DAC E Output,output voltage determined by external VREFH2 and VREFL2.", 16 VOUTF (out) "DAC F Output,output voltage determined by external VREFH2 and VREFL2.", 17 VOUTG (out) "DAC G Output,output voltage determined by external VREFH2 and VREFL2.", 18 VOUTH (out) "DAC H Output,output voltage determined by external VREFH2 and VREFL2.", 19 VREFH2 (in) "External DAC voltage reference input shared by DAC E,F,G,H.VREFH2 determines the highest positive DAC output voltage.", 20 VREFL2 (in) "External DAC voltage reference input shared by DAC E,F,G,H.VREFL2 determines the lowest negative DAC output voltage.VREFL2 must be equal to or more postive than VSS."

## DAC8800FS
designator U?
Octal 8-Bit CMOS Digital-to-Analog Converter, -40 to +85 degC, RW-20, Tube; Generic Part Number: DAC8800; Manufacturer: Analog Devices; PartNumber: DAC8800FS; # DAC Outputs: 8; Max V+: 18V; Op Pwr Diss: 12mW; Settling Time: 800ns; Single Supply: Yes; DatasheetVersion: Rev.A; PackageVersion: 060706-A; PackageReference: RW-20; PackageDescription: 20-Lead Standard Small Outline Package [SOIC_W] Wide Body; Supplier 1: Digi-Key; Supplier Part Number 1: DAC8800FS-ND; Supplier 2: Mouser; Supplier Part Number 2: 584-DAC8800FS; Packing: Tube; Resolution (Bits): 8; RoHS: N; Mounting Technology: Surface Mount; Code_JEDEC: MS-013-AC; ComponentLink1Description: Manufacturer URL; ComponentLink1URL: http://www.analog.com/en/index.html; ComponentLink2Description: Datasheet; ComponentLink2URL: http://www.analog.com/static/imported-files/data_sheets/DAC8800.pdf; ComponentLink3Description: Package Specification; ComponentLink3URL: http://www.analog.com/static/imported-files/packages/233848RW_20.pdf; ComponentLink4Description: Product URL; ComponentLink4URL: http://www.analog.com/en/digital-to-analog-converters/da-converters/dac8800/products/product.html
footprint RW-20_N (SOIC, 20-Leads, Body 12.8x7.5mm, Pitch 1.27mm, IPC Medium Density)
footprint RW-20_L (SOIC, 20-Leads, Body 12.8x7.5mm, Pitch 1.27mm, IPC High Density)
footprint RW-20_M (SOIC, 20-Leads, Body 12.8x7.5mm, Pitch 1.27mm, IPC Low Density)
pins: 1 VREFL1 (in) "External DAC voltage reference input shared by DAC A,B,C,D. VREFL1 determines the lowest negative DAC output voltage. VREFL1 must be equal to or more positive than VSS.", 2 VREFH1 (in) "External DAC voltage reference input shared by DAC A,B,C,D. VREFH1 determines the highest positive DAC output voltage.", 3 VOUTA (out) "DAC A Output. Output voltage determined by external VREFH1 and VREFL1.", 4 VOUTB (out) "DAC B Output. Output voltage determined by external VREFH1 and VREFL1.", 5 VOUTC (out) "DAC C Output. Output voltage determined by external VREFH1 and VREFL1.", 6 VOUTD (out) "DAC D Output. Output voltage determined by external VREFH1 and VREFL1.", 7 VDD (power) "Positive supply, allowable input voltage range +4.5 V to +16 V.", 8 SDI (in) "Serial Data Input. TTL Input Compatible.", 9 CLK (in) "Serial Clock Input, positive edge trggered. TTL Input Compatible.", 10 ~{CLK} (in) "Clock Enable or Serial Clock Input, negative edge triggered. TTL Input Compatible.", 11 GND (power) "Ground", 12 ~{CLR} (in) "Clear Input(Active Low). Asynchronous TTL compatible input that resets all DAC registers to zero code.", 13 ~{LD} (in) "Load DAC Register Strobe, TTL compatible input that transfers data bits from serial input register into the decoded DAC register.", 14 VSS (power) "Negative Supply, allowable input voltage range 0 V to -12 V.", 15 VOUTE (out) "DAC E Output. Output voltage determined by external VREFH2 and VREFL2.", 16 VOUTF (out) "DAC F Output. Output voltage determined by external VREFH2 and VREFL2.", 17 VOUTG (out) "DAC G Output. Output voltage determined by external VREFH2 and VREFL2.", 18 VOUTH (out) "DAC H Output. Output voltage determined by external VREFH2 and VREFL2.", 19 VREFH2 (in) "External DACA voltage reference input shared by DAC E,F,G,H. VREFH2 determines the highest positive DAC output voltage.", 20 VREFL2 (in) "External DACA voltage reference input shared by DAC E,F,G,H. VREFL2 determines the lowest negative DAC output voltage. VREFL2 must be equal to or more positive than VSS."

## DAC8800FS-REEL
designator U?
Octal 8-Bit CMOS Digital-to-Analog Converter, -40 to +85 degC, RW-20, Reel; Generic Part Number: DAC8800; Manufacturer: Analog Devices; PartNumber: DAC8800FS-REEL; # DAC Outputs: 8; Max V+: 18V; Op Pwr Diss: 12mW; Settling Time: 800ns; Single Supply: Yes; DatasheetVersion: Rev.A; PackageVersion: 060706-A; PackageReference: RW-20; PackageDescription: 20-Lead Standard Small Outline Package [SOIC_W] Wide Body; Supplier 1: Digi-Key; Supplier Part Number 1: DAC8800FS-REELTR-ND; Supplier 2: Digi-Key; Supplier Part Number 2: DAC8800FS-REELCT-ND; Supplier 3: Mouser; Supplier Part Number 3: 584-DAC8800FS-R; Packing: Reel; Resolution (Bits): 8; RoHS: N; Mounting Technology: Surface Mount; Code_JEDEC: MS-013-AC; ComponentLink1Description: Manufacturer URL; ComponentLink1URL: http://www.analog.com/en/index.html; ComponentLink2Description: Datasheet; ComponentLink2URL: http://www.analog.com/static/imported-files/data_sheets/DAC8800.pdf; ComponentLink3Description: Package Specification; ComponentLink3URL: http://www.analog.com/static/imported-files/packages/233848RW_20.pdf; ComponentLink4Description: Product URL; ComponentLink4URL: http://www.analog.com/en/digital-to-analog-converters/da-converters/dac8800/products/product.html
footprint RW-20_N (SOIC, 20-Leads, Body 12.8x7.5mm, Pitch 1.27mm, IPC Medium Density)
footprint RW-20_L (SOIC, 20-Leads, Body 12.8x7.5mm, Pitch 1.27mm, IPC High Density)
footprint RW-20_M (SOIC, 20-Leads, Body 12.8x7.5mm, Pitch 1.27mm, IPC Low Density)
pins: 1 VREFL1 (in) "External DAC voltage reference input shared by DAC A,B,C,D. VREFL1 determines the lowest negative DAC output voltage. VREFL1 must be equal to or more positive than VSS.", 2 VREFH1 (in) "External DAC voltage reference input shared by DAC A,B,C,D. VREFH1 determines the highest positive DAC output voltage.", 3 VOUTA (out) "DAC A Output. Output voltage determined by external VREFH1 and VREFL1.", 4 VOUTB (out) "DAC B Output. Output voltage determined by external VREFH1 and VREFL1.", 5 VOUTC (out) "DAC C Output. Output voltage determined by external VREFH1 and VREFL1.", 6 VOUTD (out) "DAC D Output. Output voltage determined by external VREFH1 and VREFL1.", 7 VDD (power) "Positive supply, allowable input voltage range +4.5 V to +16 V.", 8 SDI (in) "Serial Data Input. TTL Input Compatible.", 9 CLK (in) "Serial Clock Input, positive edge trggered. TTL Input Compatible.", 10 ~{CLK} (in) "Clock Enable or Serial Clock Input, negative edge triggered. TTL Input Compatible.", 11 GND (power) "Ground", 12 ~{CLR} (in) "Clear Input(Active Low). Asynchronous TTL compatible input that resets all DAC registers to zero code.", 13 ~{LD} (in) "Load DAC Register Strobe, TTL compatible input that transfers data bits from serial input register into the decoded DAC register.", 14 VSS (power) "Negative Supply, allowable input voltage range 0 V to -12 V.", 15 VOUTE (out) "DAC E Output. Output voltage determined by external VREFH2 and VREFL2.", 16 VOUTF (out) "DAC F Output. Output voltage determined by external VREFH2 and VREFL2.", 17 VOUTG (out) "DAC G Output. Output voltage determined by external VREFH2 and VREFL2.", 18 VOUTH (out) "DAC H Output. Output voltage determined by external VREFH2 and VREFL2.", 19 VREFH2 (in) "External DACA voltage reference input shared by DAC E,F,G,H. VREFH2 determines the highest positive DAC output voltage.", 20 VREFL2 (in) "External DACA voltage reference input shared by DAC E,F,G,H. VREFL2 determines the lowest negative DAC output voltage. VREFL2 must be equal to or more positive than VSS."

## DAC8800FSZ-REEL
designator U?
Octal 8-Bit CMOS Digital-to-Analog Converter, -40 to +85 degC, RW-20, Pb-Free, Reel; Generic Part Number: DAC8800; Manufacturer: Analog Devices; PartNumber: DAC8800FSZ-REEL; # DAC Outputs: 8; Max V+: 18V; Op Pwr Diss: 12mW; Settling Time: 800ns; Single Supply: Yes; DatasheetVersion: Rev.A; PackageVersion: 060706-A; PackageReference: RW-20; PackageDescription: 20-Lead Standard Small Outline Package [SOIC_W] Wide Body; Supplier 1: Digi-Key; Supplier Part Number 1: DAC8800FSZ-REEL-ND; Supplier 2: Newark; Supplier Part Number 2: 59K7957; Supplier 3: Mouser; Supplier Part Number 3: 584-DAC8800FSZ-R; Packing: Reel; Resolution (Bits): 8; RoHS: Y; Mounting Technology: Surface Mount; Code_JEDEC: MS-013-AC; ComponentLink1Description: Manufacturer URL; ComponentLink1URL: http://www.analog.com/en/index.html; ComponentLink2Description: Datasheet; ComponentLink2URL: http://www.analog.com/static/imported-files/data_sheets/DAC8800.pdf; ComponentLink3Description: Package Specification; ComponentLink3URL: http://www.analog.com/static/imported-files/packages/233848RW_20.pdf; ComponentLink4Description: Product URL; ComponentLink4URL: http://www.analog.com/en/digital-to-analog-converters/da-converters/dac8800/products/product.html
footprint RW-20_N (SOIC, 20-Leads, Body 12.8x7.5mm, Pitch 1.27mm, IPC Medium Density)
footprint RW-20_L (SOIC, 20-Leads, Body 12.8x7.5mm, Pitch 1.27mm, IPC High Density)
footprint RW-20_M (SOIC, 20-Leads, Body 12.8x7.5mm, Pitch 1.27mm, IPC Low Density)
pins: 1 VREFL1 (in) "External DAC voltage reference input shared by DAC A,B,C,D. VREFL1 determines the lowest negative DAC output voltage. VREFL1 must be equal to or more positive than VSS.", 2 VREFH1 (in) "External DAC voltage reference input shared by DAC A,B,C,D. VREFH1 determines the highest positive DAC output voltage.", 3 VOUTA (out) "DAC A Output. Output voltage determined by external VREFH1 and VREFL1.", 4 VOUTB (out) "DAC B Output. Output voltage determined by external VREFH1 and VREFL1.", 5 VOUTC (out) "DAC C Output. Output voltage determined by external VREFH1 and VREFL1.", 6 VOUTD (out) "DAC D Output. Output voltage determined by external VREFH1 and VREFL1.", 7 VDD (power) "Positive supply, allowable input voltage range +4.5 V to +16 V.", 8 SDI (in) "Serial Data Input. TTL Input Compatible.", 9 CLK (in) "Serial Clock Input, positive edge trggered. TTL Input Compatible.", 10 ~{CLK} (in) "Clock Enable or Serial Clock Input, negative edge triggered. TTL Input Compatible.", 11 GND (power) "Ground", 12 ~{CLR} (in) "Clear Input(Active Low). Asynchronous TTL compatible input that resets all DAC registers to zero code.", 13 ~{LD} (in) "Load DAC Register Strobe, TTL compatible input that transfers data bits from serial input register into the decoded DAC register.", 14 VSS (power) "Negative Supply, allowable input voltage range 0 V to -12 V.", 15 VOUTE (out) "DAC E Output. Output voltage determined by external VREFH2 and VREFL2.", 16 VOUTF (out) "DAC F Output. Output voltage determined by external VREFH2 and VREFL2.", 17 VOUTG (out) "DAC G Output. Output voltage determined by external VREFH2 and VREFL2.", 18 VOUTH (out) "DAC H Output. Output voltage determined by external VREFH2 and VREFL2.", 19 VREFH2 (in) "External DACA voltage reference input shared by DAC E,F,G,H. VREFH2 determines the highest positive DAC output voltage.", 20 VREFL2 (in) "External DACA voltage reference input shared by DAC E,F,G,H. VREFL2 determines the lowest negative DAC output voltage. VREFL2 must be equal to or more positive than VSS."

## JM38510/11301BEA
designator U?
Single 8-Bit Multiplying Digital-to-Analog Converter with Universal Digital Logic Interface, Q-16, Tube; Generic Part Number: DAC08; Manufacturer: Analog Devices; PartNumber: JM38510/11301BEA; # DAC Outputs: 1; Max V+: 18V; Op Pwr Diss: 33mW; Resolution (Bits): 8; Settling Time: 85ns; Single Supply: No; DatasheetVersion: Rev.C; PackageVersion: 1996; PackageReference: Q-16; PackageDescription: DIP, 16-Pin, Skinny Dual In-line Package, 300mil Wide, Pitch 2.54 mm; Supplier 1: Mouser; Supplier Part Number 1: 584-JM3851011301BEA; Packing: Tube; RoHS: N; Mounting Technology: Through Hole; ComponentLink1Description: Manufacturer URL; ComponentLink1URL: http://www.analog.com/en/index.html; ComponentLink2Description: Datasheet; ComponentLink2URL: http://www.analog.com/static/imported-files/data_sheets/DAC08.pdf; ComponentLink3Description: Package Specification; ComponentLink3URL: http://www.analog.com/static/imported-files/packages/54083157002221Q_16.pdf; ComponentLink4Description: Product URL; ComponentLink4URL: http://www.analog.com/en/digital-to-analog-converters/da-converters/dac08/products/product.html
footprint Q-16 (DIP, 16-Leads, Row Spacing 7.62mm, Pitch 2.54mm, Body 20.07x6.73mm)
pins: 1 VLC (in), 2 ~{IOUT}, 3 V- (power), 4 IOUT (out), 5 (MSB) B1 (in), 6 B2 (in), 7 B3 (in), 8 B4 (in), 9 B5 (in), 10 B6 (in), 11 B7 (in), 12 B8 (LSB) (in), 13 V+ (power), 14 VREF (+) (in), 15 VREF (-) (in), 16 COMP